# EAGLE library part MCU_ATEMGA32P-PU (library akita)
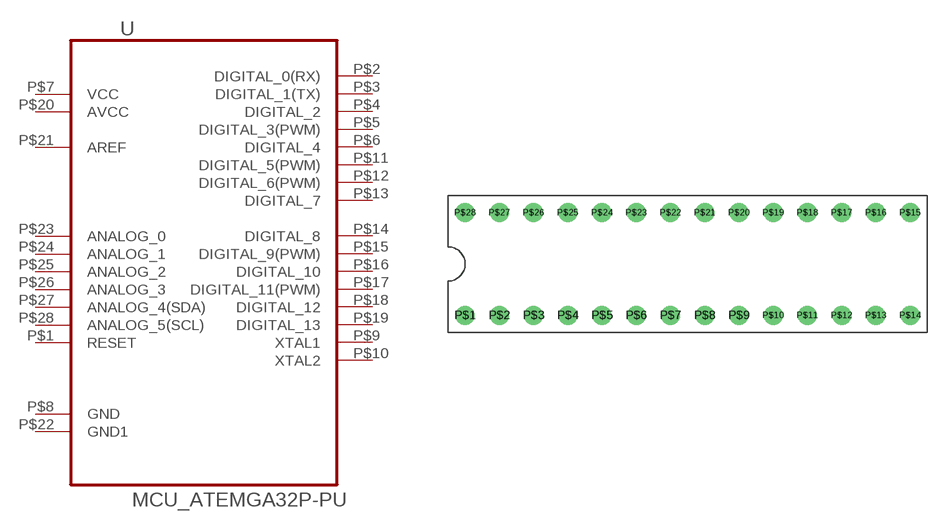
[diagram p135: symbol with the pads of DIP-28P(300MIL); footprint DIP-28P(300MIL)]

Designator prefix U

## MCU_ATEMGA32P-PU  [DIP-28P(300MIL)]
P$1  RESET
P$2  DIGITAL_0(RX)
P$3  DIGITAL_1(TX)
P$4  DIGITAL_2
P$5  DIGITAL_3(PWM)
P$6  DIGITAL_4
P$7  VCC  pwr
P$8  GND  pas
P$9  XTAL1
P$10  XTAL2
P$11  DIGITAL_5(PWM)
P$12  DIGITAL_6(PWM)
P$13  DIGITAL_7
P$14  DIGITAL_8
P$15  DIGITAL_9(PWM)
P$16  DIGITAL_10
P$17  DIGITAL_11(PWM)
P$18  DIGITAL_12
P$19  DIGITAL_13
P$20  AVCC  pwr
P$21  AREF  in
P$22  GND1  pas
P$23  ANALOG_0
P$24  ANALOG_1
P$25  ANALOG_2
P$26  ANALOG_3
P$27  ANALOG_4(SDA)
P$28  ANALOG_5(SCL)

## Footprint DIP-28P(300MIL) (pad centres in mm)
drill 0.9: P$1 -17.78,-3.81; P$2 -15.24,-3.81; P$3 -12.7,-3.81; P$4 -10.16,-3.81; P$5 -7.62,-3.81; P$6 -5.08,-3.81; P$7 -2.54,-3.81; P$8 0,-3.81; P$9 2.54,-3.81; P$10 5.08,-3.81; P$11 7.62,-3.81; P$12 10.16,-3.81; P$13 12.7,-3.81; P$14 15.24,-3.81; P$15 15.24,3.81; P$16 12.7,3.81; P$17 10.16,3.81; P$18 7.62,3.81; P$19 5.08,3.81; P$20 2.54,3.81; P$21 0,3.81; P$22 -2.54,3.81; P$23 -5.08,3.81; P$24 -7.62,3.81; P$25 -10.16,3.81; P$26 -12.7,3.81; P$27 -15.24,3.81; P$28 -17.78,3.81